# EAGLE library part PIC16F886 (library PIC)
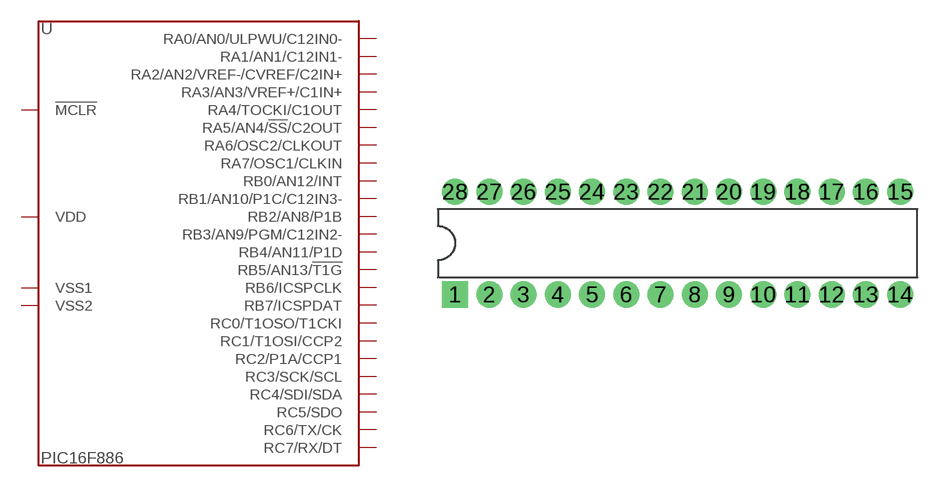
[diagram p0: symbol with the pads of DIL28; footprint DIL28]

Designator prefix -

## PIC16F886  [DIL28]
1  !MCLR  pas
2  RA0/AN0/ULPWU/C12IN0-  pas
3  RA1/AN1/C12IN1-  pas
4  RA2/AN2/VREF-/CVREF/C2IN+  pas
5  RA3/AN3/VREF+/C1IN+  pas
6  RA4/TOCKI/C1OUT  pas
7  RA5/AN4/!SS!/C2OUT  pas
8  VSS1  pas
9  RA7/OSC1/CLKIN  pas
10  RA6/OSC2/CLKOUT  pas
11  RC0/T1OSO/T1CKI  pas
12  RC1/T1OSI/CCP2  pas
13  RC2/P1A/CCP1  pas
14  RC3/SCK/SCL  pas
15  RC4/SDI/SDA  pas
16  RC5/SDO  pas
17  RC6/TX/CK  pas
18  RC7/RX/DT  pas
19  VSS2  pas
20  VDD  pas
21  RB0/AN12/INT  pas
22  RB1/AN10/P1C/C12IN3-  pas
23  RB2/AN8/P1B  pas
24  RB3/AN9/PGM/C12IN2-  pas
25  RB4/AN11/P1D  pas
26  RB5/AN13/!T1G  pas
27  RB6/ICSPCLK  pas
28  RB7/ICSPDAT  pas

## Footprint DIL28 (pad centres in mm)
Dual In Line package type P
drill 1 pad 1.93 square: 1 -16.51,-3.81
drill 1 pad 1.93: 2 -13.97,-3.81; 3 -11.43,-3.81; 4 -8.89,-3.81; 5 -6.35,-3.81; 6 -3.81,-3.81; 7 -1.27,-3.81; 8 1.27,-3.81; 9 3.81,-3.81; 10 6.35,-3.81; 11 8.89,-3.81; 12 11.43,-3.81; 13 13.97,-3.81; 14 16.51,-3.81; 15 16.51,3.81; 16 13.97,3.81; 17 11.43,3.81; 18 8.89,3.81; 19 6.35,3.81; 20 3.81,3.81; 21 1.27,3.81; 22 -1.27,3.81; 23 -3.81,3.81; 24 -6.35,3.81; 25 -8.89,3.81; 26 -11.43,3.81; 27 -13.97,3.81; 28 -16.51,3.81